# Altium schematic symbol library 030-7328.Schlib: 1 symbol
Pins are listed as number, name and electrical type; pins without a type are passive.

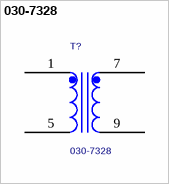
[diagram p0: symbol 030-7328]

## 030-7328
designator T?
Transformer, Single Secondary 110V:15V
pins: 1, 5 2, 7, 9 5